# Altium footprint library SO-14n.PcbLib: 1 footprints
Each footprint in its own frame and in the unit in brackets; x right, y up, seen from the top. Pads: shape width x height; smd on the part's side, far side on the other; paste and mask are expansions set on the pad; w line width, h text height; cw(c..) or ccw(c..) is an arc to the next point about the centre after c.
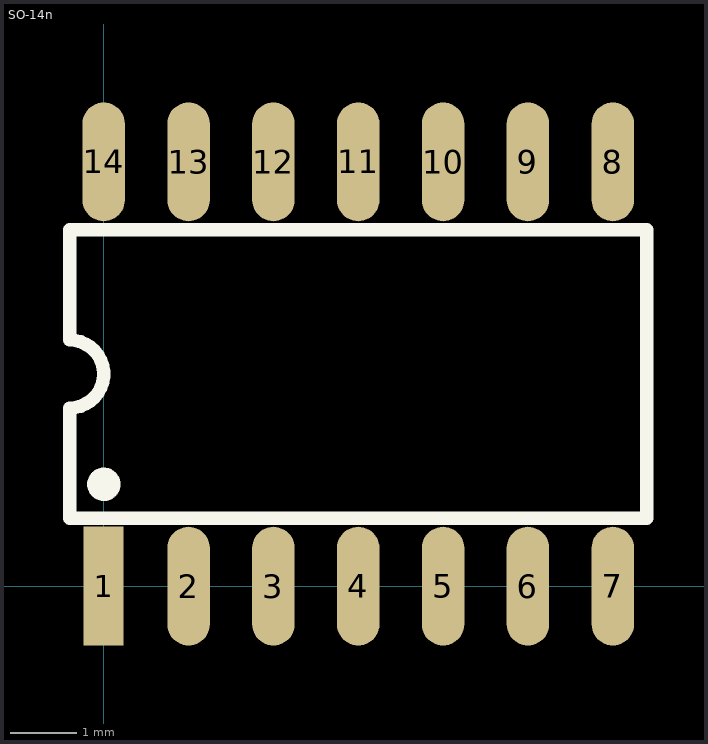
[diagram p0: the footprint, top view; thin cyan lines are the x and y axes]

## SO-14n [mil]
pads (14):
  rect 23.62x70 smd: 1(0,0)
  oval 25x70 smd: 2(50,0) 3(100,0) 4(150,0) 5(200,0) 6(250,0) 7(300,0) 8(300,250) 9(250,250) 10(200,250) 11(150,250) 12(100,250) 13(50,250) 14(0,250)
Top Overlay:
  circle w9.84: c0.08,60 r4.92
  lines w7.87: -20,40 320,40 320,210 -20,210 -20,145 cw(c-20,125) -20,105 -20,40